# Altium schematic symbol library Mechanical.SchLib: 11 symbols
Pins are listed as number, name and electrical type; pins without a type are passive.

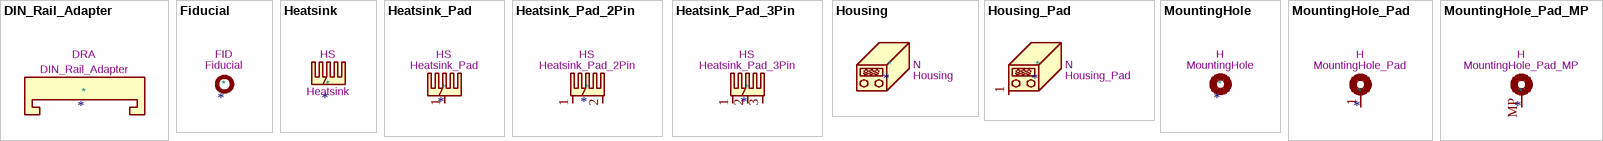
[diagram p0: symbols DIN_Rail_Adapter to MountingHole_Pad_MP]

## DIN_Rail_Adapter
designator *  value DIN_Rail_Adapter  Reference: DRA
ki_keywords: Mounting holes, DIN rail adapter; ki_description: DIN Rail adapter universal, mounting holes without connection; ki_fp_filters: DINRailAdapter?3xM3* DINRailAdapter?2xM3*; Datasheet: ~

## Fiducial
designator *  value Fiducial  Reference: FID
ki_keywords: fiducial marker; ki_fp_filters: Fiducial*; Datasheet: ~; ki_description: Fiducial Marker

## Heatsink
designator *  value Heatsink  Reference: HS
ki_keywords: thermal heat temperature; ki_fp_filters: Heatsink_*; Datasheet: ~; ki_description: Heatsink

## Heatsink_Pad
designator *  value Heatsink_Pad  Reference: HS
ki_keywords: thermal heat temperature; ki_description: Heatsink with electrical connection, 1 pin; ki_fp_filters: Heatsink_*; Datasheet: ~
pins: 1

## Heatsink_Pad_2Pin
designator *  value Heatsink_Pad_2Pin  Reference: HS
ki_keywords: thermal heat temperature; ki_description: Heatsink with electrical connection, 2 pin; ki_fp_filters: Heatsink_*; Datasheet: ~
pins: 1, 2

## Heatsink_Pad_3Pin
designator *  value Heatsink_Pad_3Pin  Reference: HS
ki_keywords: thermal heat temperature; ki_description: Heatsink with electrical connection, 3 pin; ki_fp_filters: Heatsink_*; Datasheet: ~
pins: 1, 2, 3

## Housing
designator *  value Housing  Reference: N
ki_keywords: housing enclosure; ki_fp_filters: Enclosure* Housing*; Datasheet: ~; ki_description: Housing

## Housing_Pad
designator *  value Housing_Pad  Reference: N
ki_keywords: housing enclosure shield; ki_description: Housing with connection pin; Datasheet: ~
pins: 1 PAD

## MountingHole
designator *  value MountingHole  Reference: H
ki_keywords: mounting hole; ki_description: Mounting Hole without connection; ki_fp_filters: MountingHole*; Datasheet: ~

## MountingHole_Pad
designator *  value MountingHole_Pad  Reference: H
ki_keywords: mounting hole; ki_description: Mounting Hole with connection; ki_fp_filters: MountingHole*Pad*; Datasheet: ~
pins: 1

## MountingHole_Pad_MP
designator *  value MountingHole_Pad_MP  Reference: H
ki_keywords: mounting hole; ki_description: Mounting Hole with connection as pad named MP; ki_fp_filters: MountingHole*Pad*; Datasheet: ~
pins: MP